# EAGLE library part 418217170912 (library Switches_rev16a)
WS-RA 2.54 mm right angled compact THT Dip Switch with flat actuator, 12 Pole
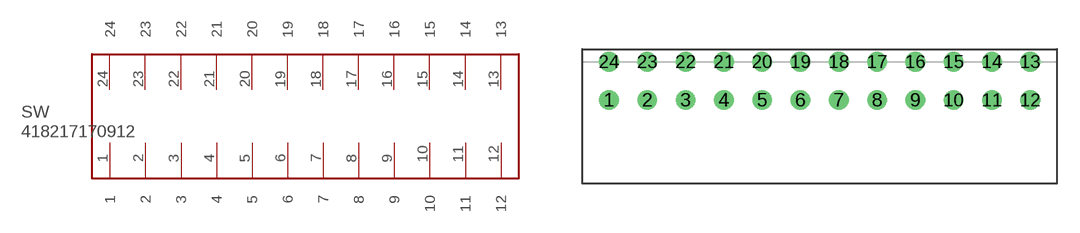
[diagram p74: symbol with the pads of 418217170912; footprint 418217170912]

Designator prefix SW

## 418217170912  [418217170912]
1  1
2  2
3  3
4  4
5  5
6  6
7  7
8  8
9  9
10  10
11  11
12  12
13  13
14  14
15  15
16  16
17  17
18  18
19  19
20  20
21  21
22  22
23  23
24  24

## Footprint 418217170912 (pad centres in mm)
WS-RA 2.54 mm right angled compact THT Dip Switch with flat actuator, 12 Pole
drill 0.8: 1 -13.97,-1.27; 2 -11.43,-1.27; 3 -8.89,-1.27; 4 -6.35,-1.27; 5 -3.81,-1.27; 6 -1.27,-1.27; 7 1.27,-1.27; 8 3.81,-1.27; 9 6.35,-1.27; 10 8.89,-1.27; 11 11.43,-1.27; 12 13.97,-1.27; 13 13.97,1.27; 14 11.43,1.27; 15 8.89,1.27; 16 6.35,1.27; 17 3.81,1.27; 18 1.27,1.27; 19 -1.27,1.27; 20 -3.81,1.27; 21 -6.35,1.27; 22 -8.89,1.27; 23 -11.43,1.27; 24 -13.97,1.27